# EAGLE library part 10100660 (library components)
AMPHENOL microDS push push connector (9pin)
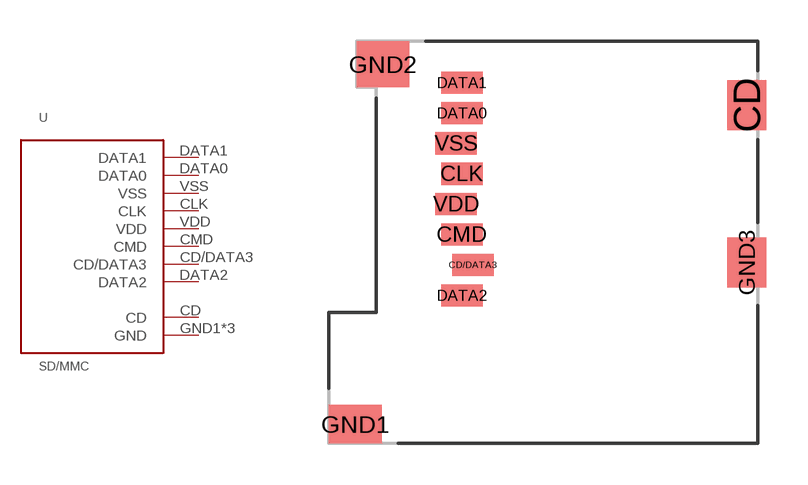
[diagram p1: symbol with the pads of -68-6; footprint -68-6]

Designator prefix -

## 10100660  [-68-6]
CD  CD  pas
CD/DATA3  CD/DATA3  pas
CLK  CLK  pas
CMD  CMD  pas
DATA0  DATA0  pas
DATA1  DATA1  pas
DATA2  DATA2  pas
GND1  GND  pas
GND2  GND  pas
GND3  GND  pas
VDD  VDD  pas
VSS  VSS  pas

## Footprint -68-6 (pad centres in mm)
smd 1.4 x 1.8: CD 7.22,4.63; GND3 7.22,-1.07
smd 1.5 x 0.8: CD/DATA3 -2.68,-1.16; CLK -3.08,2.14; CMD -3.08,-0.06; DATA0 -3.08,4.34; DATA1 -3.08,5.44; DATA2 -3.08,-2.26; VDD -3.28,1.04; VSS -3.28,3.24
smd 1.9 x 1.4: GND1 -6.93,-6.92
smd 1.9 x 1.65: GND2 -5.93,6.105